# Altium schematic symbol library NT_8.Schlib: 1 symbol
Pins are listed as number, name and electrical type; pins without a type are passive.

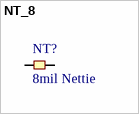
[diagram p0: symbol NT_8]

## NT_8
designator NT?, comment 8mil Nettie  (net tie, no BOM)
8mil wide nettie
footprint NT_8mil (8mil wide nettie)
pins: 1, 2